# Altium footprint library 电源管理IC.PcbLib: 5 footprints
Each footprint in its own frame and in the unit in brackets; x right, y up, seen from the top. Pads: shape width x height; smd on the part's side, far side on the other; paste and mask are expansions set on the pad; w line width, h text height; cw(c..) or ccw(c..) is an arc to the next point about the centre after c.
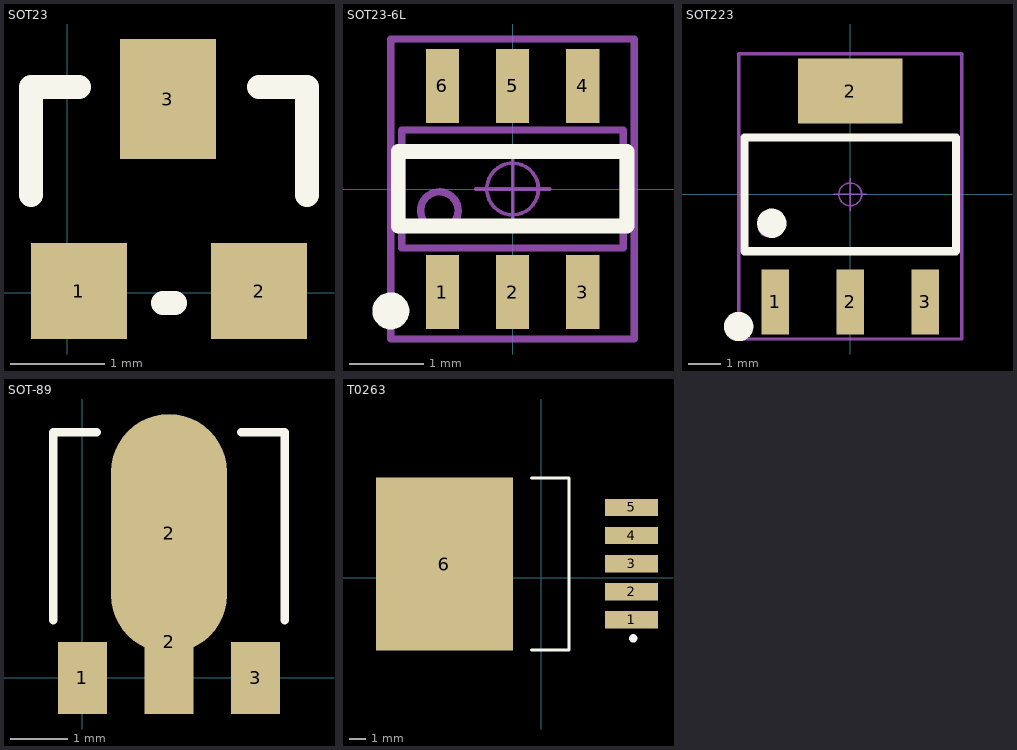
[diagram p0: the footprints below, top view; thin cyan lines are the x and y axes]

## SOT23 [mil]
pads (3):
  rect 40x40 smd: 1(4.88,0.63) 2(79.88,0.63)
  rect 40x50 smd: 3(41.88,80.63)
Top Overlay:
  lines w10: -15.12,40.63 -15.12,85.63 4.88,85.63 ; 39.88,-4.37 44.88,-4.37 ; 79.88,85.63 99.88,85.63 99.88,40.63
3D body "SOT-23-3.STEP": height 47.24, standoff 0, extent -14.87,-11.02 99.3,99.22

## SOT23-6L [mm]
height 1.45
pads (6):
  rect 0.45x1 smd: 1(-0.95,-1.397) 2(0,-1.397) 3(0.95,-1.397) 4(0.95,1.397) 5(0,1.397) 6(-0.95,1.397)
Top Overlay:
  circle w0.25: c-1.65,-1.651 r0.125
  lines w0.2: -1.55,-0.5 -1.55,0.508 1.55,0.508 1.55,-0.5 -1.55,-0.5
Mechanical 13:
  circle w0.1: c-0.992,-0.292 r0.254
  lines w0.1: -1.5,-0.8 1.5,-0.8 1.5,0.8 -1.5,0.8 -1.5,-0.8
Mechanical 15:
  circle w0.05: c0,0 r0.35
  lines w0.05: -0.5,0 0.5,0 ; 0,-0.5 0,0.5
  lines w0.1: -1.65,-2.032 1.65,-2.032 1.65,2.032 -1.65,2.032 -1.65,-2.032
3D body "SOT23-6.STEP": height 1.15, standoff -0.03, extent -1.5,-1.404 1.5,1.403

## SOT223 [mm]
pads (4):
  rect 0.85x2 smd: 1(-2.3,-3.302) 2(0,-3.302) 3(2.3,-3.302)
  rect 3.2x2 smd: 2(0,3.175)
Top Overlay:
  circle w0.5: c-2.413,-0.889 r0.2
  circle w0.5: c-3.429,-4.064 r0.2
  lines w0.25: -3.25,-1.75 -3.25,1.75 3.25,1.75 3.25,-1.75 -3.25,-1.75
Mechanical 13:
  circle w0.1: c-2.536,-1.016 r0.25
  lines w0.1: -3.25,-1.75 3.25,-1.75 3.25,1.75 -3.25,1.75 -3.25,-1.75
Mechanical 15:
  circle w0.05: c0,0 r0.35
  lines w0.05: -0.5,0 0.5,0 ; 0,-0.5 0,0.5
  lines w0.1: -3.429,-4.445 3.429,-4.445 3.429,4.318 -3.429,4.318 -3.429,-4.445
3D body "SOT223.STEP": height 1.65, standoff -0.02, extent -3.25,-3.508 3.25,3.508

## SOT-89 [mil]
pads (4):
  rect 34.02x50 smd: 1(0,0) 3(120,0)
  rect 34x100 smd: 2(60,25)
  oval 80x165.35 smd: 2(60,100)
Top Overlay:
  lines w5.91: -20,40 -20,170 10,170 ; 110,170 140,170 140,40
3D body "SW3dPS-SOT89.STEP": height 62.57, standoff -0.76, extent -30.55,-16.65 150.55,150.67

## T0263 [mm]
pads (6):
  rect 3.2x1.05 smd: 1(5.461,-2.558) 2(5.461,-0.858) 3(5.461,0.842) 4(5.461,2.542) 5(5.461,4.242)
  rect 8.3x10.45 smd: 6(-5.863,0.82)
Top Overlay:
  circle w0.25: c5.563,-3.675 r0.125
  lines w0.2: -0.576,-4.38 1.674,-4.38 1.674,6.02 -0.576,6.02
3D body "TO263-5.STEP": height 4.78, standoff -0.02, extent -9.283,-4.205 6.387,5.795